# EAGLE library part M-DOT (library MarAlert)
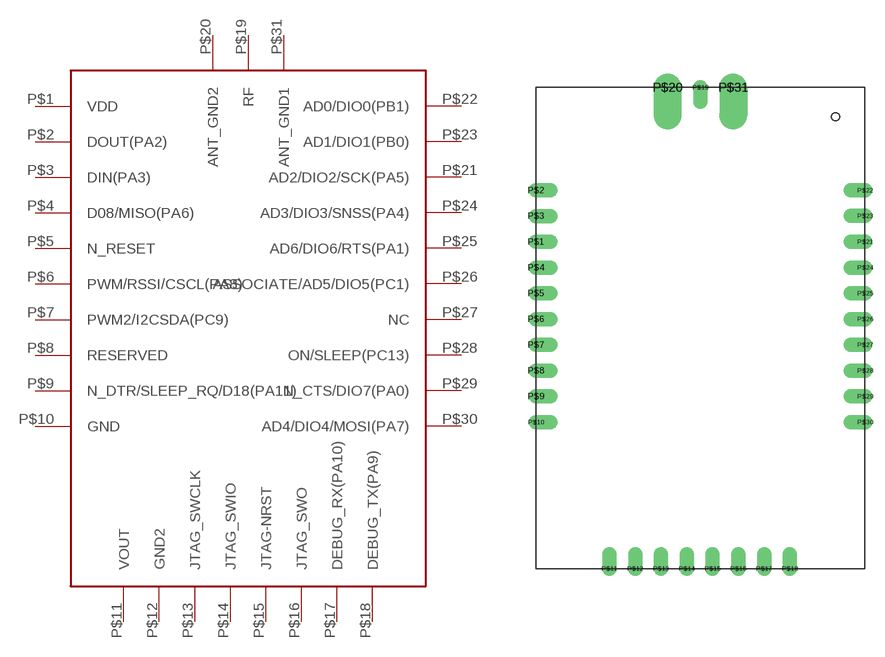
[diagram p2: symbol with the pads of M-DOT; footprint M-DOT]

Designator prefix -

## M-DOT  [M-DOT]
P$1  VDD  pwr
P$2  DOUT(PA2)
P$3  DIN(PA3)
P$4  D08/MISO(PA6)
P$5  N_RESET
P$6  PWM/RSSI/CSCL(PA8)
P$7  PWM2/I2CSDA(PC9)
P$8  RESERVED
P$9  N_DTR/SLEEP_RQ/D18(PA11)
P$10  GND
P$11  VOUT
P$12  GND2
P$13  JTAG_SWCLK
P$14  JTAG_SWIO
P$15  JTAG-NRST
P$16  JTAG_SWO
P$17  DEBUG_RX(PA10)
P$18  DEBUG_TX(PA9)
P$19  RF
P$20  ANT_GND2
P$21  AD2/DIO2/SCK(PA5)
P$22  AD0/DIO0(PB1)
P$23  AD1/DIO1(PB0)
P$24  AD3/DIO3/SNSS(PA4)
P$25  AD6/DIO6/RTS(PA1)
P$26  ASSOCIATE/AD5/DIO5(PC1)
P$27  NC
P$28  ON/SLEEP(PC13)
P$29  N_CTS/DIO7(PA0)
P$30  AD4/DIO4/MOSI(PA7)
P$31  ANT_GND1

## Footprint M-DOT (pad centres in mm)
drill 0.6 offset: P$1 0,25.349; P$2 0,29.337; P$3 0,27.356; P$4 0,23.35; P$5 -0.003,21.351; P$6 0,19.352; P$7 0,17.353; P$8 0,15.354; P$9 0,13.355; P$10 0,11.356; P$11 5.7,0; P$12 7.7,0; P$13 9.7,0; P$14 11.7,0; P$15 13.7,0; P$16 15.7,0; P$17 17.7,0; P$18 19.7,0; P$21 25.552,25.354; P$22 25.552,29.342; P$23 25.552,27.361; P$24 25.552,23.355; P$25 25.55,21.356; P$26 25.552,19.357; P$27 25.552,17.358; P$28 25.552,15.359; P$29 25.552,13.36; P$30 25.552,11.361
drill 0.6 pad 1.016 offset: P$19 12.76,37.33
drill 0.6 pad 2.184 offset: P$20 10.21,37.33; P$31 15.31,37.33